# Altium schematic symbol library E-Logos.SchLib: 2 symbols
Pins are listed as number, name and electrical type; pins without a type are passive.

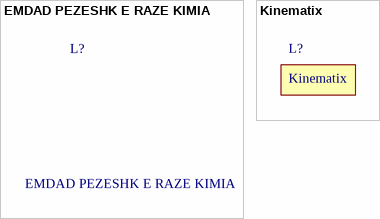
[diagram p0: symbols EMDAD PEZESHK E RAZE KIMIA to Kinematix]

## EMDAD PEZESHK E RAZE KIMIA
designator L?  (graphical)
footprint Emdad Pezeshk E Raze Kimia

## Kinematix
designator L?  (graphical)
footprint Kinematix